# Altium footprint library ZhangXue.PcbLib: 39 footprints (part 3 of 3)
Each footprint in its own frame and in the unit in brackets; x right, y up, seen from the top. Pads: shape width x height; smd on the part's side, far side on the other; paste and mask are expansions set on the pad; w line width, h text height; cw(c..) or ccw(c..) is an arc to the next point about the centre after c.
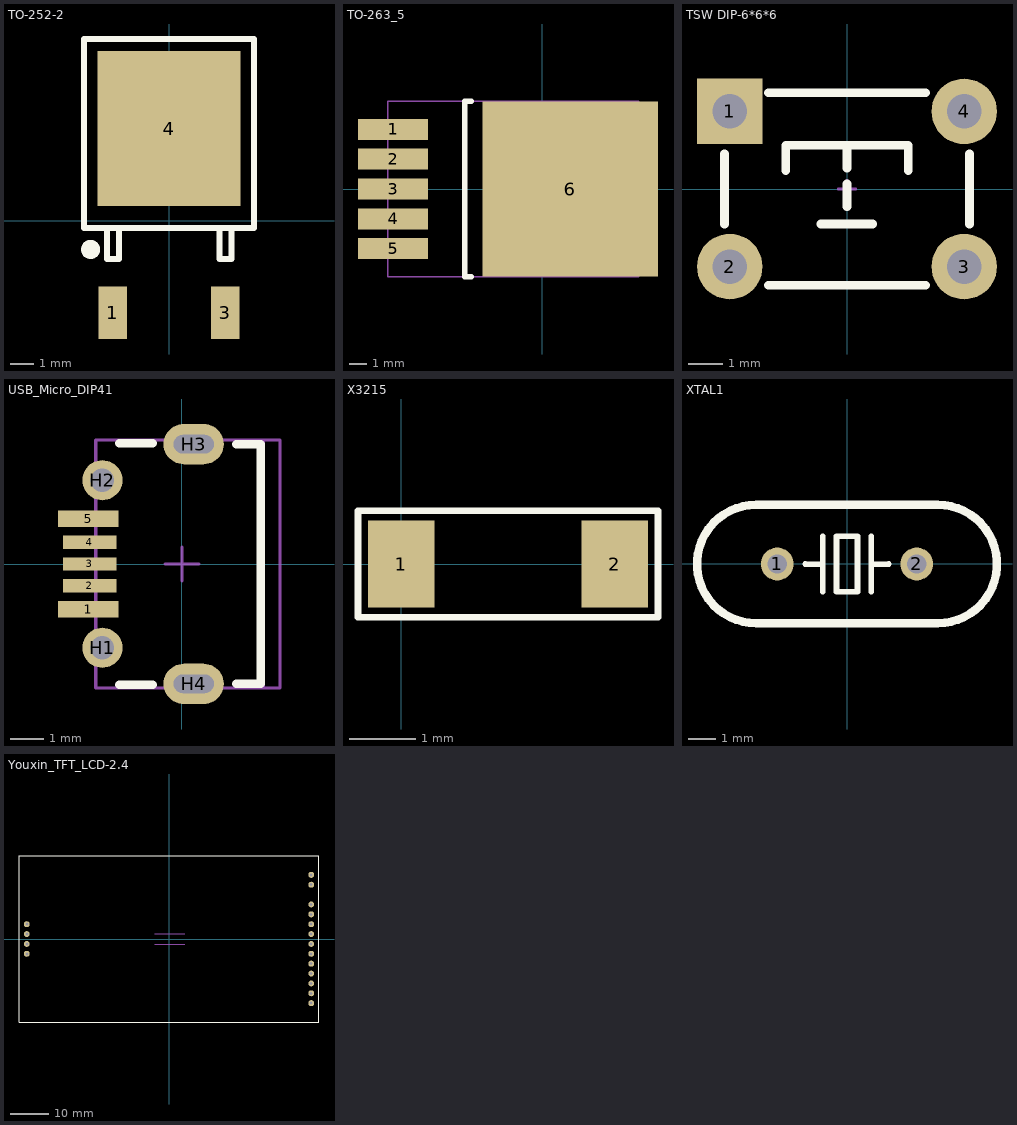
[diagram p2: the footprints below, top view; thin cyan lines are the x and y axes]

## TO-252-2 [mil]
pads (3):
  rect 47.24x86.62 smd: 1(-93,-152.6) 3(93,-152.4)
  rect 236.22x255.9 smd: 4(0,152.6)
Top Overlay:
  lines w10: -102.36,-12.16 -102.36,-63.34 -82.68,-63.34 -82.68,-12.16 ; 83.56,-12 83.56,-63.18 103.25,-63.18 103.25,-12 ; -140.67,-12.16 -140.67,300.83 140.67,300.83 140.67,-12.16 -140.67,-12.16
  lines w15.75: -122,-47.7 cw(c-129.87,-47.65) -122,-47.6
3D body "User Library-DPAK-1.STEP": height 94.19, standoff -0.89, extent -128.74,-160 128.74,231.27

## TO-263_5 [mm]
pads (6):
  rect 4x1.2 smd: 1(-8.5,3.4) 2(-8.5,1.7) 3(-8.5,0) 4(-8.5,-1.7) 5(-8.5,-3.4)
  rect 10x10 smd: 6(1.6,0)
Top Overlay:
  lines w0.3: -4.029,-5 -4.41,-5 -4.41,5 -4.029,5
Mechanical 15:
  lines w0.1: -4.5,-5 -4.5,5 ; -4.5,-5 4.5,-5 ; -4.5,-5 -8.8,-5 -8.8,5 -4.5,5 ; -4.5,5 4.5,5 ; 4.5,-5 5.5,-5 5.5,5 4.5,5 ; 4.5,-5 4.5,5
3D body "TO263-5.STEP": height 4.78, standoff -0.02, extent -9.4,-5 6.27,5

## TSW DIP-6*6*6 [mm]
pads (4):
  rect 1.9x1.9 hole 1: 1(-3.4,2.25)
  round 1.9 hole 1: 2(-3.4,-2.25) 3(3.4,-2.25) 4(3.4,2.25)
Top Overlay:
  lines w0.254: -3.556,-1.016 -3.556,1.016 ; -2.286,-2.794 2.286,-2.794 ; -2.286,2.794 2.286,2.794 ; -1.778,0.533 -1.778,1.27 1.778,1.27 1.778,0.533 ; -0.762,-1.016 0.737,-1.016 ; 0,-0.508 0,0.152 ; 0,0.61 0,1.27 ; 3.556,-1.016 3.556,1.016
Bottom Overlay:
  lines w0.254: -2.286,-2.286 2.286,-2.286 ; -2.286,2.286 2.286,2.286
Mechanical 15:
  lines w0.076: -0.254,0 0.254,0 ; 0,-0.254 0,0.254
3D body "TSW DIP-6x6x6.STEP": height 5.95, standoff -3.45, extent -4.233,-2.794 3.979,3.206

## USB_Micro_DIP41 [mm]
pads (9):
  rect 1.8x0.5 smd: 1(-2.8,-1.35) 5(-2.8,1.35)
  rect 1.6x0.4 smd: 2(-2.75,-0.65) 3(-2.75,0) 4(-2.75,0.65)
  round 1.2 hole 0.7: H1(-2.375,-2.5) H2(-2.375,2.5)
  oval 1.8x1.2 hole 0.55 slot 1.2 at 0 deg: H3(0.35,3.575) H4(0.35,-3.575)
Top Overlay:
  lines w0.254: -1.875,-3.6 -0.875,-3.6 ; -1.875,3.6 -0.875,3.6 ; 1.625,-3.575 2.35,-3.575 2.35,3.575 1.625,3.575
Mechanical 15:
  lines w0.1: -0.5,0 0.5,0 ; 0,-0.5 0,0.5 ; 2.425,-3.7 2.925,-3.7 2.925,3.7 2.425,3.7 ; 2.425,-3.7 -2.575,-3.7 -2.575,3.7 2.425,3.7 ; 2.425,-3.7 2.425,3.7
3D body "Micro_USB_2.STEP": height 2.68, standoff -0.63, extent -2.505,-4.1 2.925,4.1

## X3215 [mm]
pads (2):
  rect 1x1.3 smd: 1(0,0) 2(3.2,0)
Top Overlay:
  lines w0.1: -0.65,-0.8 -0.65,0.8 3.85,0.8 3.85,-0.8 -0.65,-0.8
3D body "User Library-X3215.STEP": height 0.81, standoff 0, extent 0,-0.762 3.2,0.738

## XTAL1 [mil]
pads (2):
  round 47.2 hole 27.5: 1(-100,0) 2(100,0)
Top Overlay:
  lines w8: -60,0 -39.86,-0.17 ; -35,-40 -35,40 ; 35,-40 35,40 ; 40.14,-0.17 60,0 ; -15,-40 -15,40 15,40 15,-40 -15,-40
  lines w12: -130,-85 cw(c-130,0) -130,85 130,85 cw(c130,0) 130,-85 -130,-85
3D body "SW3dPS-HP49US.STEP": height 137.8, standoff -157.48, extent -223.43,-90 223.43,93.07

## Youxin_TFT_LCD-2.4 [mil]
pads (18):
  round 60 hole 30: 1(-1440.55,150) 2(-1440.55,50) 3(-1440.55,-50) 4(-1440.55,-150) 5(1440.55,650) 6(1440.55,550) 8(1440.55,350) 9(1440.55,250) 10(1440.55,150) 11(1440.55,50) 12(1440.55,-50) 13(1440.55,-150) 14(1440.55,-250) 15(1440.55,-350) 16(1440.55,-450) 17(1440.55,-550) 18(1440.55,-650)
  round 0 all layers, no hole: 7(1440.55,450)
Top Overlay:
  lines w10: -1519.29,-840.94 1519.29,-840.94 1519.29,840.94 -1519.29,840.94 -1519.29,-840.94
Mechanical 15:
  lines w3.94: -145.67,-51.18 157.48,-51.18 ; -145.67,51.18 157.48,51.18